# EAGLE library part NRF24L01_MODULE (library rx)
Multi connection point. Often used as Generic Header-pin footprint for 0.1 inch spaced/style header connections On any of the 0.1 inch spaced packages, you can populate with these: Break Away Headers - Straight <https://www.sparkfun.com/products/116> (PRT-00116) Break Away Male Headers - Right Angle <https://www.sparkfun.com/products/553> (PRT-00553) Female Headers <https://www.sparkfun.com/products/115> (PRT-00115) Break Away Headers - Machine Pin <https://www.sparkfun.com/products/117> (PRT-00117) Break Away Female Headers - Swiss Machine Pin <https://www.sparkfun.com/products/743> (PRT-00743)
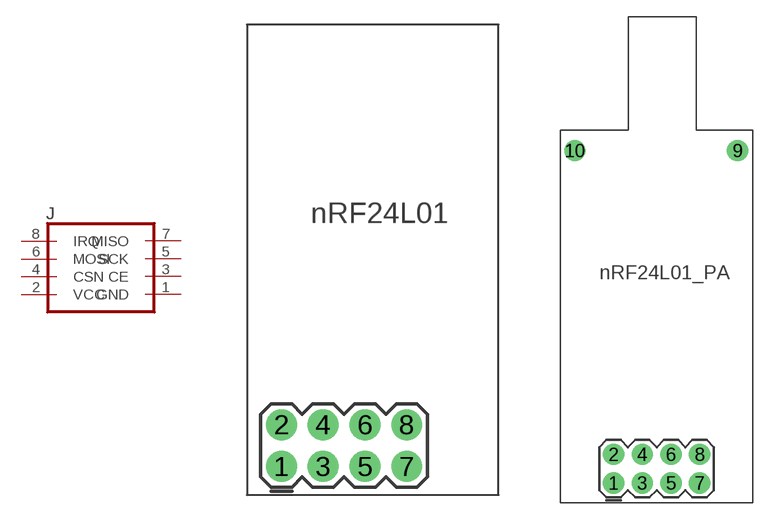
[diagram p2: symbol with the pads of NRF24L01; footprints NRF24L01, NRF24L01_PA]

Designator prefix J

## NRF24L01_MODULE  [NRF24L01]
1  GND
2  VCC
3  CE
4  CSN
5  SCK
6  MOSI
7  MISO
8  IRQ

## NRF24L01_MODULE_PA  [NRF24L01_PA]
Pads as for NRF24L01

## Footprint NRF24L01 (pad centres in mm)
Plated Through Hole - 2x4 Specifications: Pin count:8 Pin pitch:0.1" Example device(s): CONN_04x2
drill 1.016 pad 1.88: 1 -13.21,1.73; 2 -13.21,4.27; 3 -10.67,1.73; 4 -10.67,4.27; 5 -8.13,1.73; 6 -8.13,4.27; 7 -5.59,1.73; 8 -5.59,4.27

## Footprint NRF24L01_PA (pad centres in mm)
Plated Through Hole - 2x4 Specifications: Pin count:8 Pin pitch:0.1" Example device(s): CONN_04x2
drill 1.016 pad 1.88: 1 -3.81,-15.47; 2 -3.81,-12.93; 3 -1.27,-15.47; 4 -1.27,-12.93; 5 1.27,-15.47; 6 1.27,-12.93; 7 3.81,-15.47; 8 3.81,-12.93; 9 7.17,13.97; 10 -7.23,13.97